# EAGLE library part AD8137 (library Lynx components)
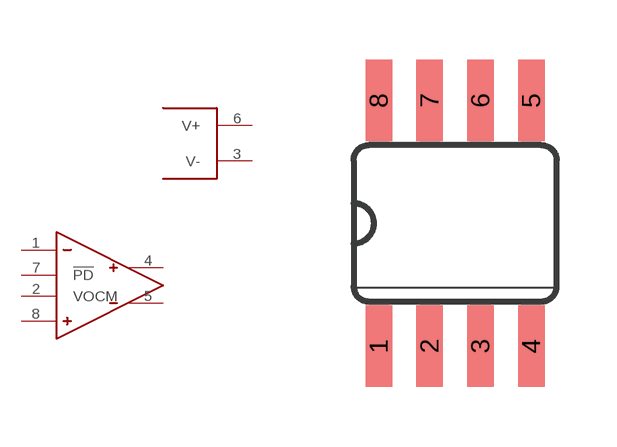
[diagram p5: symbol with the pads of SO08; footprint SO08]

Designator prefix -; gates G$1=POWER-SUPPLY G$2=FULLY-DIFF-AMP

## AD8137  [SO08]
1  G$2:
2  G$2:VOCM
3  G$1:V-  pwr
4  G$2:
5  G$2:
6  G$1:V+  pwr
7  G$2:!PD!
8  G$2:

## Footprint SO08 (pad centres in mm)
smd 0.66 x 2.032: 1 -1.81,-3.198; 2 -0.54,-3.198; 3 0.73,-3.198; 4 2,-3.198; 5 2,2.948; 6 0.73,2.948; 7 -0.54,2.948; 8 -1.81,2.948